# Altium schematic symbol library Capacitors Ceramic SMD 1005.SchLib: 2 symbols
Pins are listed as number, name and electrical type; pins without a type are passive.

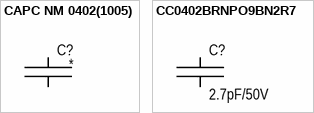
[diagram p0: symbols CAPC NM 0402(1005) to CC0402BRNPO9BN2R7]

## CAPC NM 0402(1005)
designator C?, comment /  (value not drawn)  (no BOM)
CAPC NM 0402(1005); Group: Discrete; Type: Ceramic; Component: Capacitor Ceramic; Package: 0402 (1005); Mounting type: Surface mount (Not mounted); Height: 0.55mm; Dimension: 1.00mm x 0.50mm
footprint CAPC1005N_NM (Chip Capacitor, Body 1.0x0.5mm, IPC High Density)
footprint CAPC1005M_NM (Chip Capacitor, Body 1.0x0.5mm, IPC High Density)
footprint CAPC1005L_NM (Chip Capacitor, Body 1.0x0.5mm, IPC High Density)
pins: 1, 2

## CC0402BRNPO9BN2R7
designator C?, comment 2.7pF/50V
CAPC 2.7pF 50V 0402(1005); Manufacturer: Yageo; Part name: CC0402BRNPO9BN2R7; Group: Discrete; Temperature coefficient: NP0, C0G; Tolerance: ±0.1pF; Type: Ceramic; Component: Capacitor Ceramic; Voltage: 50V; Package: 0402 (1005); Capacitance: 2.7pF; Operating temperature: -55°C +125°C; Mounting type: Surface mount; Height: 0.55mm; Dimension: 1.00mm x 0.50mm
footprint CAPC1005N (Chip Capacitor, Body 1.0x0.5mm, IPC High Density)
footprint CAPC1005M (Chip Capacitor, Body 1.0x0.5mm, IPC High Density)
footprint CAPC1005L (Chip Capacitor, Body 1.0x0.5mm, IPC High Density)
pins: 1, 2